# EAGLE library part CS82C55A-5Z (library Intersil_By_element14_Batch_1)
CMOS Programmable Peripheral Interface
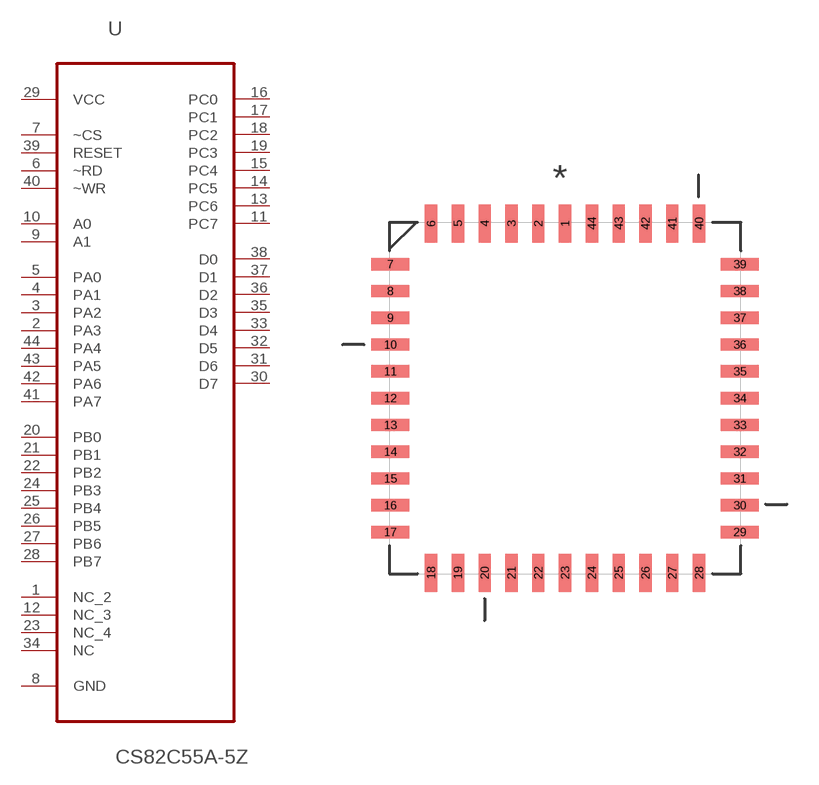
[diagram p23: symbol with the pads of PLCC127P1752X1752X457-44N; footprint PLCC127P1752X1752X457-44N]

Designator prefix U

## CS82C55A-5Z (MPN: CS82C55A-5Z; OC_FARNELL: 1562070; OC_NEWARK: 79K6075; PACKAGE: PLCC-44; SUPPLIER: INTERSIL)  [PLCC127P1752X1752X457-44N]
1  NC_2  nc
2  PA3
3  PA2
4  PA1
5  PA0
6  ~RD  in
7  ~CS  in
8  GND  pas
9  A1  in
10  A0  in
11  PC7
12  NC_3  nc
13  PC6
14  PC5
15  PC4
16  PC0
17  PC1
18  PC2  nc
19  PC3
20  PB0
21  PB1
22  PB2
23  NC_4  nc
24  PB3
25  PB4
26  PB5
27  PB6
28  PB7
29  VCC  pwr
30  D7
31  D6
32  D5
33  D4
34  NC  nc
35  D3
36  D2
37  D1
38  D0
39  RESET  in
40  ~WR  in
41  PA7
42  PA6
43  PA5
44  PA4

## Footprint PLCC127P1752X1752X457-44N (pad centres in mm)
smd 0.584 x 1.803: 1 0,8.28; 2 -1.27,8.28; 3 -2.54,8.28; 4 -3.81,8.28; 5 -5.08,8.28; 6 -6.35,8.28; 18 -6.35,-8.28; 19 -5.08,-8.28; 20 -3.81,-8.28; 21 -2.54,-8.28; 22 -1.27,-8.28; 23 0,-8.28; 24 1.27,-8.28; 25 2.54,-8.28; 26 3.81,-8.28; 27 5.08,-8.28; 28 6.35,-8.28; 40 6.35,8.28; 41 5.08,8.28; 42 3.81,8.28; 43 2.54,8.28; 44 1.27,8.28
smd 1.803 x 0.584: 7 -8.28,6.35; 8 -8.28,5.08; 9 -8.28,3.81; 10 -8.28,2.54; 11 -8.28,1.27; 12 -8.28,0; 13 -8.28,-1.27; 14 -8.28,-2.54; 15 -8.28,-3.81; 16 -8.28,-5.08; 17 -8.28,-6.35; 29 8.28,-6.35; 30 8.28,-5.08; 31 8.28,-3.81; 32 8.28,-2.54; 33 8.28,-1.27; 34 8.28,0; 35 8.28,1.27; 36 8.28,2.54; 37 8.28,3.81; 38 8.28,5.08; 39 8.28,6.35